# EAGLE library part MC08-G (library con-phoenix-381)
Mini-Combicon 3.81mm horizontal 8-polig MC 1,5/8-G-3,81 Artikel-Nr. 1803332 mit Gegenstecker MC 1,5/8-ST-3,81 Artikel-Nr. 1803633
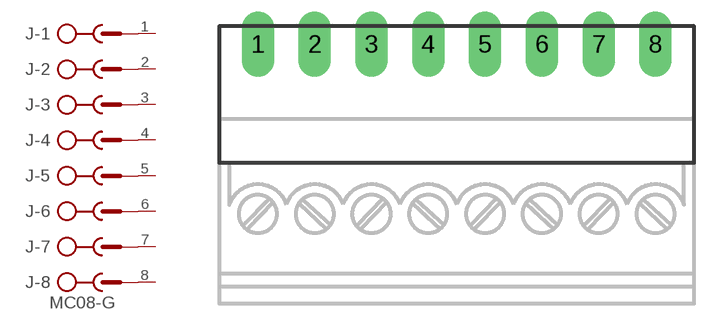
[diagram p15: symbol with the pads of MC8-G; footprint MC8-G]

Designator prefix J; gates -8=SK+V -1=SK -2=SK -3=SK -4=SK -5=SK -6=SK -7=SK

## MC08-G  [MC8-G]
1  -1:SK  pas
2  -2:SK  pas
3  -3:SK  pas
4  -4:SK  pas
5  -5:SK  pas
6  -6:SK  pas
7  -7:SK  pas
8  -8:SK  pas

## Footprint MC8-G (pad centres in mm)
Mini-Combicon 3.81mm horizontal 8-polig MC 1,5/8-G-3,81 Artikel-Nr. 1803332 mit Gegenstecker MC 1,5/8-ST-3,81 Artikel-Nr. 1803633
drill 1.27 pad 2.184 long: 1 -13.335,0; 2 -9.525,0; 3 -5.715,0; 4 -1.905,0; 5 1.905,0; 6 5.715,0; 7 9.525,0; 8 13.335,0